# EAGLE library part LT3751*? (library kiks-ic)
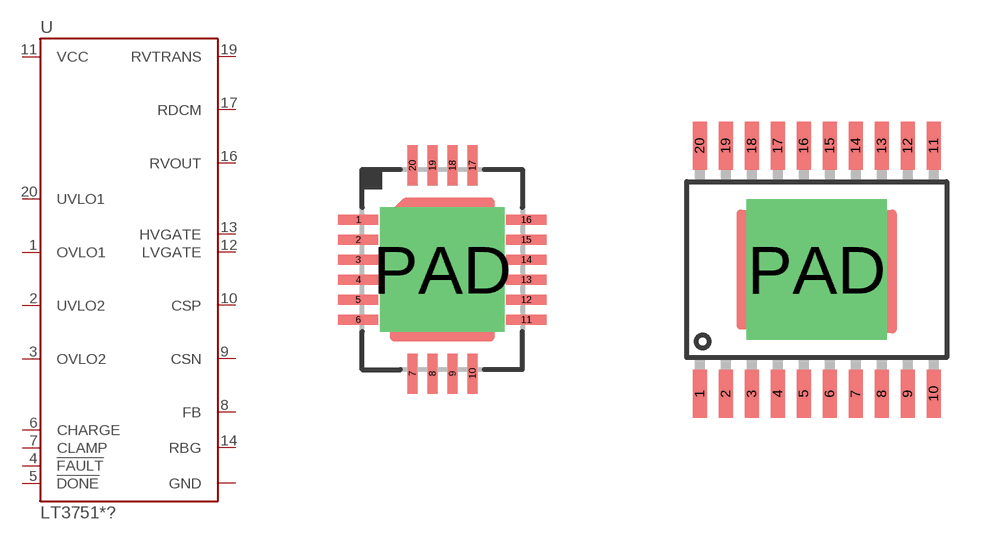
[diagram p19: symbol with the pads of QFN20-0.5-4X5; footprints QFN20-0.5-4X5, TSSOP20-PAD]

Designator prefix U

## LT3751EUFD, LT3751IUFD  [QFN20-0.5-4X5]
1  OVLO1
2  UVLO2
3  OVLO2
4  !FAULT
5  !DONE
6  CHARGE
7  CLAMP
8  FB
9  CSN
10  CSP
11  VCC
12  LVGATE
13  HVGATE
14  RBG
16  RVOUT
17  RDCM
19  RVTRANS
20  UVLO1
PAD  GND

## LT3751EFE, LT3751IFE  [TSSOP20-PAD]
1  RVTRANS
2  UVLO1
3  OVLO1
4  UVLO2
5  OVLO2
6  !FAULT
7  !DONE
8  CHARGE
9  CLAMP
10  FB
11  CSN
12  CSP
13  VCC
14  LVGATE
15  HVGATE
16  RBG
18  RVOUT
20  RDCM
PAD  GND

## Footprint QFN20-0.5-4X5 (pad centres in mm)
smd 1 x 0.25: 1 -2.1,1.25; 2 -2.1,0.75; 3 -2.1,0.25; 4 -2.1,-0.25; 5 -2.1,-0.75; 6 -2.1,-1.25; 11 2.1,-1.25; 12 2.1,-0.75; 13 2.1,-0.25; 14 2.1,0.25; 15 2.1,0.75; 16 2.1,1.25
smd 0.25 x 1: 7 -0.75,-2.6; 8 -0.25,-2.6; 9 0.25,-2.6; 10 0.75,-2.6; 17 0.75,2.6; 18 0.25,2.6; 19 -0.25,2.6; 20 -0.75,2.6
drill 2.1 pad 2.6 square: PAD 0,0

## Footprint TSSOP20-PAD (pad centres in mm)
smd 0.35 x 1.2: 1 -2.925,-3.1; 2 -2.275,-3.1; 3 -1.625,-3.1; 4 -0.975,-3.1; 5 -0.325,-3.1; 6 0.325,-3.1; 7 0.975,-3.1; 8 1.625,-3.1; 9 2.275,-3.1; 10 2.925,-3.1; 11 2.925,3.1; 12 2.275,3.1; 13 1.625,3.1; 14 0.975,3.1; 15 0.325,3.1; 16 -0.325,3.1; 17 -0.975,3.1; 18 -1.625,3.1; 19 -2.275,3.1; 20 -2.925,3.1
drill 2.5 pad 3 square: PAD 0,0